# Altium schematic symbol library imu-pcb-lib.SchLib: 14 symbols
Pins are listed as number, name and electrical type; pins without a type are passive.

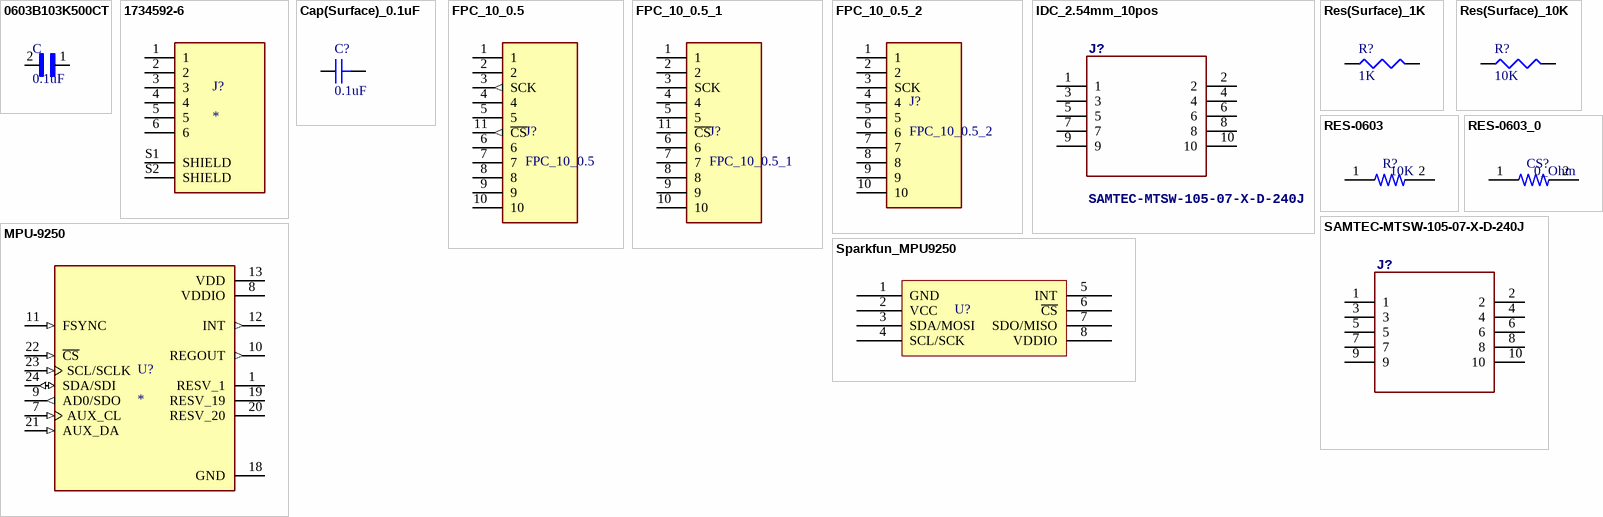
[diagram p0: symbols 0603B103K500CT to Sparkfun_MPU9250]

## 0603B103K500CT
designator C, comment 0.1uF
10000pF Â±10% 50V Ceramic Capacitor X7R 0603 (1608 Metric); MF: Walsin Technology; MP: 0603B103K500CT; Price: None; SnapEDA_Link: https://www.snapeda.com/parts/0603B103K500CT/Walsin%20Technology%20Corporation/view-part/424904/?ref=snap; Availability: Unavailable; Mouser-Purchase-URL: https://snapeda.com/shop?store=Mouser&id=424904; Package: 0603 Walsin Technologies; DigiKey-Purchase-URL: https://snapeda.com/shop?store=DigiKey&id=424904; Value: *
footprint CAPC1608X87N
pins: 1, 2

## 1734592-6
designator J?
6 Position FPC Connector Contacts, Bottom 0.020 (0.50mm) Surface Mount, Right Angle; MP: 1734592-6; MF: TE Connectivity; Package: None; SnapEDA_Link: https://www.snapeda.com/parts/1734592-6/TE%20Connectivity/view-part/4788517/?ref=snap; Price: None; Availability: Unavailable; Value: *
footprint TE_1734592-6
pins: 1, 2, 3, 4, 5, 6, S1 SHIELD, S2 SHIELD

## Cap(Surface)_0.1uF
designator C?, comment 0.1uF
Capacitor; Published: 23-Sep-2002; PackageReference: CAPR5-4X5; Publisher: Altium Limited; PackageDescription: Capacitor; 2 Leads; Value: 0.1uF; Supplier: LCSC; Supplier Part No: C105951
simulation model CAP (Capacitor)
signal-integrity model Cap
footprint CAP (0805)
pins: 1, 2

## FPC_10_0.5
designator J?
10 Position FPC Connector Contacts, Bottom 0.020 (0.50mm) Surface Mount, Right Angle; MP: 1734592-6; MF: TE Connectivity; Package: None; SnapEDA_Link: https://www.snapeda.com/parts/1734592-6/TE%20Connectivity/view-part/4788517/?ref=snap; Price: None; Availability: Unavailable; Value: *
footprint FPC_10_0.5
pins: 1, 2, 3 SCK (out), 4, 5, 6, 7, 8, 9, 10, 11 ~{CS} (out)

## FPC_10_0.5_1
designator J?
10 Position FPC Connector Contacts, Bottom 0.020 (0.50mm) Surface Mount, Right Angle; MP: 1734592-6; MF: TE Connectivity; Package: None; SnapEDA_Link: https://www.snapeda.com/parts/1734592-6/TE%20Connectivity/view-part/4788517/?ref=snap; Price: None; Availability: Unavailable; Value: *
footprint FPC_10_0.5_1
pins: 1, 2, 3 SCK, 4, 5, 6, 7, 8, 9, 10, 11 ~{CS}

## FPC_10_0.5_2
designator J?
10 Position FPC Connector Contacts, Bottom 0.020 (0.50mm) Surface Mount, Right Angle; MP: 1734592-6; MF: TE Connectivity; Package: None; SnapEDA_Link: https://www.snapeda.com/parts/1734592-6/TE%20Connectivity/view-part/4788517/?ref=snap; Price: None; Availability: Unavailable; Value: *
footprint FPC_10_0.5_2
pins: 1, 2, 3 SCK, 4, 5, 6, 7, 8, 9, 10

## IDC_2.54mm_10pos
designator J?, comment SAMTEC-MTSW-105-07-X-D-240J
5x2 male connector (2.54mm)
footprint IDC_2.54_10
pins: 1, 2, 3, 4, 5, 6, 7, 8, 9, 10

## MPU-9250
designator U?
Accelerometer, Gyroscope, Magnetometer, 9 Axis Sensor IÂ²C, SPI Output; MF: TDK InvenSense; SnapEDA_Link: https://www.snapeda.com/parts/MPU-9250/TDK%20InvenSense/view-part/4652549/?ref=snap; Value: *; MP: MPU-9250; Availability: Unavailable; Package: TFQFN-24 TDK InvenSense; Price: None
footprint QFN40P300X300X105-24N
pins: 1 RESV_1, 7 AUX_CL (in), 8 VDDIO (power), 9 AD0/SDO (out), 10 REGOUT (out), 11 FSYNC (in), 12 INT (out), 13 VDD (power), 18 GND (power), 19 RESV_19, 20 RESV_20, 21 AUX_DA (in), 22 ~{CS} (in), 23 SCL/SCLK (in), 24 SDA/SDI (io)

## Res(Surface)_1K
designator R?, comment 1K
Resistor SMD 0805; Suppler Part No: C25623; Published: 8-Jun-2000; LatestRevisionDate: 29-May-2009; LatestRevisionNote: IPC-7351 Footprint Added.; PackageReference: J1-0603; Publisher: Altium Limited; PackageDescription: Chip Resistor; Supplier: LCSC
simulation model RESISTOR (Resistor)
signal-integrity model Res
footprint Res (C0805)
pins: 1, 2

## Res(Surface)_10K
designator R?, comment 10K
Resistor SMD 0805; Published: 8-Jun-2000; LatestRevisionDate: 29-May-2009; LatestRevisionNote: IPC-7351 Footprint Added.; PackageReference: J1-0603; Publisher: Altium Limited; PackageDescription: Chip Resistor; Supplier Part No: C306152; Supplier: LCSC
simulation model RESISTOR (Resistor)
signal-integrity model Res
footprint Res (C0805)
pins: 1, 2

## RES-0603
designator R?, comment 10K
RES SMD 10 OHM 0.1% 1/16W 0603; Voltage_Rating: 50 V; Power_Rating: .063 W; Resistance: 10; MF: TE Connectivity; MP: 8-1614350-7; Tolerance: .1%; Availability: Warning; Price: None; SnapEDA_Link: https://www.snapeda.com/parts/8-1614350-7/TE%20Connectivity/view-part/2208042/?ref=snap; EU_RoHS_Compliance: Compliant; Value: *; Package: 0603; Comment_1: *
footprint RESC1608X50N
pins: 1, 2

## RES-0603_0
designator CS?, comment 0_Ohm
RES SMD 10 OHM 0.1% 1/16W 0603; Voltage_Rating: 50 V; Power_Rating: .063 W; Resistance: 10; MF: TE Connectivity; MP: 8-1614350-7; Tolerance: .1%; Availability: Warning; Price: None; SnapEDA_Link: https://www.snapeda.com/parts/8-1614350-7/TE%20Connectivity/view-part/2208042/?ref=snap; EU_RoHS_Compliance: Compliant; Value: *; Package: 0603; Comment_1: *
footprint RESC1608X50N
pins: 1, 2

## SAMTEC-MTSW-105-07-X-D-240J
designator J?
footprint SAMTEC-MTSW-105-07-X-D-240
pins: 1, 2, 3, 4, 5, 6, 7, 8, 9, 10

## Sparkfun_MPU9250
designator U?  (value not drawn)
https://learn.sparkfun.com/tutorials/mpu-9250-hookup-guide/all#resources-and-going-further
footprint Sparkfun_MPU9250
pins: 1 GND, 2 VCC, 3 SDA/MOSI, 4 SCL/SCK, 5 INT, 6 ~{CS}, 7 SDO/MISO, 8 VDDIO